# Altium footprint library st_tfbga225.PcbLib: 1 footprints
Each footprint in its own frame and in the unit in brackets; x right, y up, seen from the top. Pads: shape width x height; smd on the part's side, far side on the other; paste and mask are expansions set on the pad; w line width, h text height; cw(c..) or ccw(c..) is an arc to the next point about the centre after c.
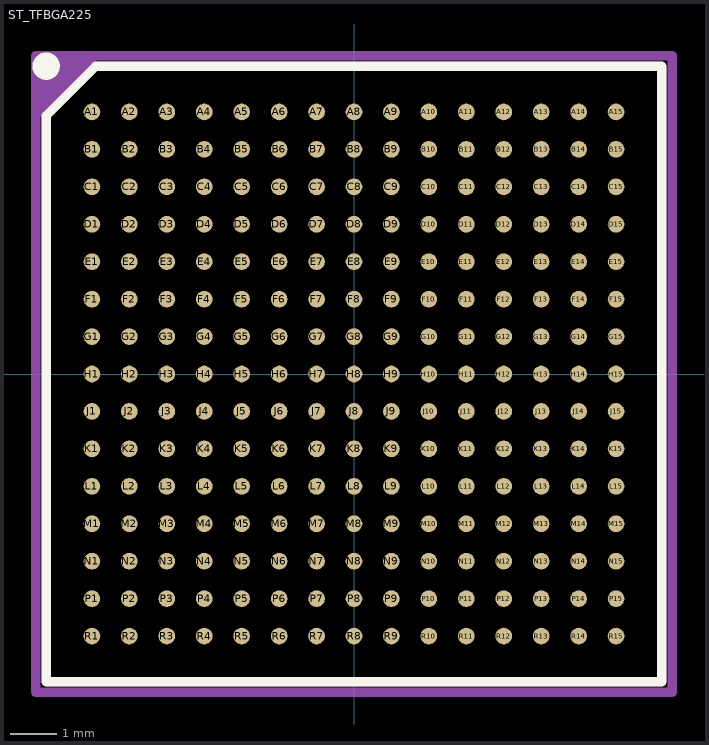
[diagram p0: the footprint, top view; thin cyan lines are the x and y axes]

## ST_TFBGA225 [mil]
height 47.24
pads (225):
  round 14 smd: A1(-220.47,220.47) A2(-188.98,220.47) A3(-157.48,220.47) A4(-125.98,220.47) A5(-94.49,220.47) A6(-62.99,220.47) A7(-31.5,220.47) A8(0,220.47) A9(31.5,220.47) A10(62.99,220.47) A11(94.49,220.47) A12(125.98,220.47) A13(157.48,220.47) A14(188.98,220.47) A15(220.47,220.47) B1(-220.47,188.98) B2(-188.98,188.98) B3(-157.48,188.98) B4(-125.98,188.98) B5(-94.49,188.98) B6(-62.99,188.98) B7(-31.5,188.98) B8(0,188.98) B9(31.5,188.98) B10(62.99,188.98) B11(94.49,188.98) B12(125.98,188.98) B13(157.48,188.98) B14(188.98,188.98) B15(220.47,188.98) C1(-220.47,157.48) C2(-188.98,157.48) C3(-157.48,157.48) C4(-125.98,157.48) C5(-94.49,157.48) C6(-62.99,157.48) C7(-31.5,157.48) C8(0,157.48) C9(31.5,157.48) C10(62.99,157.48) C11(94.49,157.48) C12(125.98,157.48) C13(157.48,157.48) C14(188.98,157.48) C15(220.47,157.48) D1(-220.47,125.98) D2(-188.98,125.98) D3(-157.48,125.98) D4(-125.98,125.98) D5(-94.49,125.98) D6(-62.99,125.98) D7(-31.5,125.98) D8(0,125.98) D9(31.5,125.98) D10(62.99,125.98) D11(94.49,125.98) D12(125.98,125.98) D13(157.48,125.98) D14(188.98,125.98) D15(220.47,125.98) E1(-220.47,94.49) E2(-188.98,94.49) E3(-157.48,94.49) E4(-125.98,94.49) E5(-94.49,94.49) E6(-62.99,94.49) E7(-31.5,94.49) E8(0,94.49) E9(31.5,94.49) E10(62.99,94.49) E11(94.49,94.49) E12(125.98,94.49) E13(157.48,94.49) E14(188.98,94.49) E15(220.47,94.49) F1(-220.47,62.99) F2(-188.98,62.99) F3(-157.48,62.99) F4(-125.98,62.99) F5(-94.49,62.99) F6(-62.99,62.99) F7(-31.5,62.99) F8(0,62.99) F9(31.5,62.99) F10(62.99,62.99) F11(94.49,62.99) F12(125.98,62.99) F13(157.48,62.99) F14(188.98,62.99) F15(220.47,62.99) G1(-220.47,31.5) G2(-188.98,31.5) G3(-157.48,31.5) G4(-125.98,31.5) G5(-94.49,31.5) G6(-62.99,31.5) G7(-31.5,31.5) G8(0,31.5) G9(31.5,31.5) G10(62.99,31.5) G11(94.49,31.5) G12(125.98,31.5) G13(157.48,31.5) G14(188.98,31.5) G15(220.47,31.5) H1(-220.47,0) H2(-188.98,0) H3(-157.48,0) H4(-125.98,0) H5(-94.49,0) H6(-62.99,0) H7(-31.5,0) H8(0,0) H9(31.5,0) H10(62.99,0) H11(94.49,0) H12(125.98,0) H13(157.48,0) H14(188.98,0) H15(220.47,0) J1(-220.47,-31.5) J2(-188.98,-31.5) J3(-157.48,-31.5) J4(-125.98,-31.5) J5(-94.49,-31.5) J6(-62.99,-31.5) J7(-31.5,-31.5) J8(0,-31.5) J9(31.5,-31.5) J10(62.99,-31.5) J11(94.49,-31.5) J12(125.98,-31.5) J13(157.48,-31.5) J14(188.98,-31.5) J15(220.47,-31.5) K1(-220.47,-62.99) K2(-188.98,-62.99) K3(-157.48,-62.99) K4(-125.98,-62.99) K5(-94.49,-62.99) K6(-62.99,-62.99) K7(-31.5,-62.99) K8(0,-62.99) K9(31.5,-62.99) K10(62.99,-62.99) K11(94.49,-62.99) K12(125.98,-62.99) K13(157.48,-62.99) K14(188.98,-62.99) K15(220.47,-62.99) L1(-220.47,-94.49) L2(-188.98,-94.49) L3(-157.48,-94.49) L4(-125.98,-94.49) L5(-94.49,-94.49) L6(-62.99,-94.49) L7(-31.5,-94.49) L8(0,-94.49) L9(31.5,-94.49) L10(62.99,-94.49) L11(94.49,-94.49) L12(125.98,-94.49) L13(157.48,-94.49) L14(188.98,-94.49) L15(220.47,-94.49) M1(-220.47,-125.98) M2(-188.98,-125.98) M3(-157.48,-125.98) M4(-125.98,-125.98) M5(-94.49,-125.98) M6(-62.99,-125.98) M7(-31.5,-125.98) M8(0,-125.98) M9(31.5,-125.98) M10(62.99,-125.98) M11(94.49,-125.98) M12(125.98,-125.98) M13(157.48,-125.98) M14(188.98,-125.98) M15(220.47,-125.98) N1(-220.47,-157.48) N2(-188.98,-157.48) N3(-157.48,-157.48) N4(-125.98,-157.48) N5(-94.49,-157.48) N6(-62.99,-157.48) N7(-31.5,-157.48) N8(0,-157.48) N9(31.5,-157.48) N10(62.99,-157.48) N11(94.49,-157.48) N12(125.98,-157.48) N13(157.48,-157.48) N14(188.98,-157.48) N15(220.47,-157.48) P1(-220.47,-188.98) P2(-188.98,-188.98) P3(-157.48,-188.98) P4(-125.98,-188.98) P5(-94.49,-188.98) P6(-62.99,-188.98) P7(-31.5,-188.98) P8(0,-188.98) P9(31.5,-188.98) P10(62.99,-188.98) P11(94.49,-188.98) P12(125.98,-188.98) P13(157.48,-188.98) P14(188.98,-188.98) P15(220.47,-188.98) R1(-220.47,-220.47) R2(-188.98,-220.47) R3(-157.48,-220.47) R4(-125.98,-220.47) R5(-94.49,-220.47) R6(-62.99,-220.47) R7(-31.5,-220.47) R8(0,-220.47) R9(31.5,-220.47) R10(62.99,-220.47) R11(94.49,-220.47) R12(125.98,-220.47) R13(157.48,-220.47) R14(188.98,-220.47) R15(220.47,-220.47)
Top Overlay:
  circle w11.81: c-259.02,259.02 r5.57
  lines w7.87: -259.02,-259.02 -259.02,217.36 -217.36,259.02 259.02,259.02 259.02,-259.02 -259.02,-259.02
Top 3D Body:
  lines w7.87: -259.02,-259.02 -259.02,259.02 259.02,259.02 259.02,-259.02 -259.02,-259.02
Top Courtyard:
  region: -267.72,267.72 -212.6,267.72 -267.72,212.6
  lines w7.87: -267.72,-267.72 -267.72,267.72 267.72,267.72 267.72,-267.72 -267.72,-267.72
Top Designator (Mech17):
  text ".Designator" at -86.61,-10.5 h39.37
3D body "TFBGA225_13X13_STM.step": height 47.09, standoff 0.01, extent -255.98,-255.98 255.98,255.98